# Altium footprint library DS1040-01.PcbLib: 1 footprints
Each footprint in its own frame and in the unit in brackets; x right, y up, seen from the top. Pads: shape width x height; smd on the part's side, far side on the other; paste and mask are expansions set on the pad; w line width, h text height; cw(c..) or ccw(c..) is an arc to the next point about the centre after c.
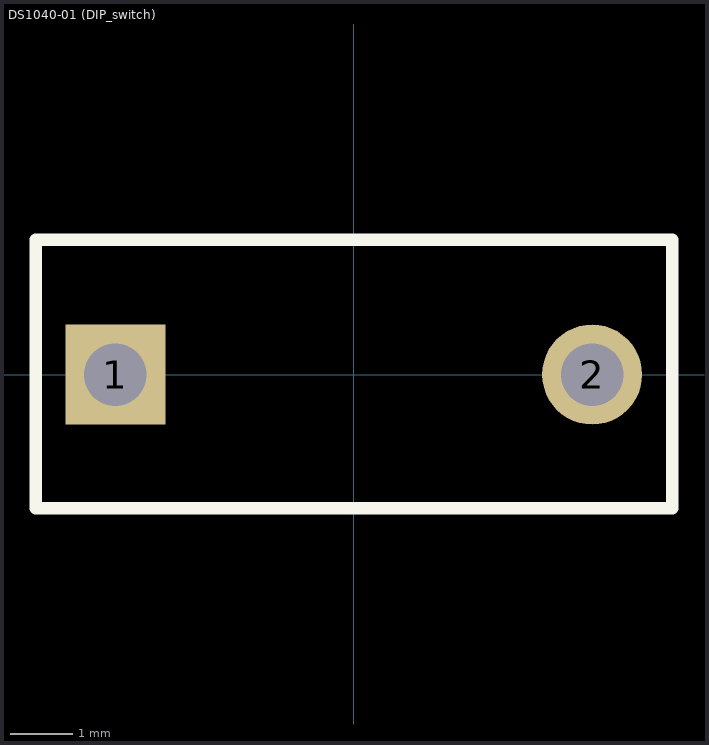
[diagram p0: the footprint, top view; thin cyan lines are the x and y axes]

## DS1040-01 (DIP_switch) [mm]
pads (2):
  rect 1.6x1.6 hole 1: 1(-3.81,0)
  round 1.6 hole 1: 2(3.81,0)
Top Overlay:
  lines w0.2: -5.083,-2.133 5.09,-2.133 5.09,2.152 -5.083,2.152 -5.083,-2.133
  text "." at -5.649,-0.149 h3
Mechanical 13:
  text ".Designator" at -4.56,-3.438 h1.52
3D body "DS1040-01 (DIP_switch).STEP": height 6.8, standoff -3.85, extent -4.95,-2 4.95,2